# Altium footprint library RESC3216X65L.PCBLIB: 1 footprints
Each footprint in its own frame and in the unit in brackets; x right, y up, seen from the top. Pads: shape width x height; smd on the part's side, far side on the other; paste and mask are expansions set on the pad; w line width, h text height; cw(c..) or ccw(c..) is an arc to the next point about the centre after c.
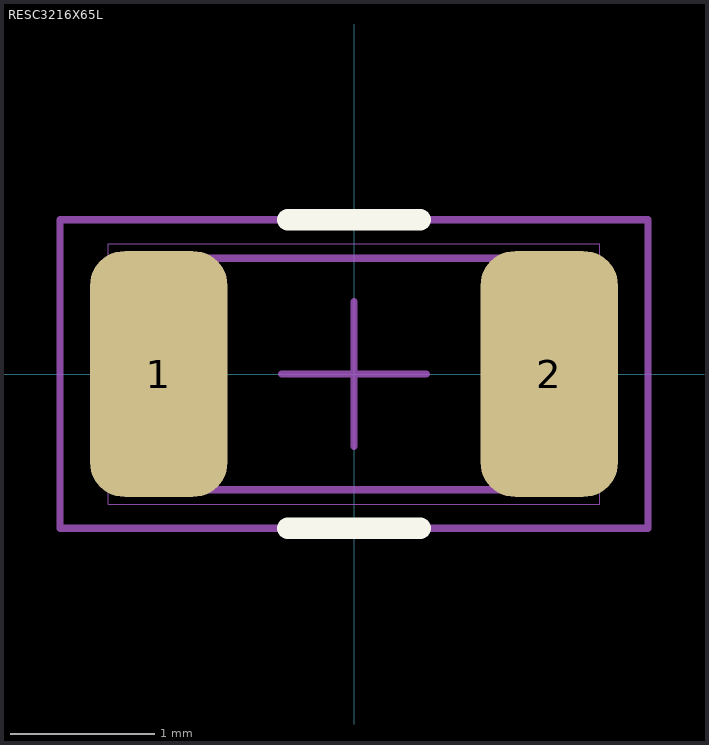
[diagram p0: the footprint, top view; thin cyan lines are the x and y axes]

## RESC3216X65L [mm] "RESISTOR LEAST 1206"
height 0.65
pads (2):
  rrect50% 0.95x1.7 smd paste+0: 1(-1.35,0) 2(1.35,0)
Top Overlay:
  lines w0.15: -0.457,-1.067 0.457,-1.067 ; -0.457,1.067 0.457,1.067
Top Component Outline:
  lines w0.001: -1.7,-0.9 -1.7,0.9 1.7,0.9 1.7,-0.9 -1.7,-0.9
  lines w0.05: -1.6,-0.8 -1.6,0.8 1.6,0.8 1.6,-0.8 -1.6,-0.8
Top Courtyard:
  lines w0.05: -0.5,0 0.5,0 ; 0,-0.5 0,0.5 ; -2.032,-1.067 -2.032,1.067 2.032,1.067 2.032,-1.067 -2.032,-1.067
3D body: height 0.65, standoff 0.05, extent -1.143,-0.9 1.143,0.9
3D body: height 0.65, standoff 0.05, extent -1.7,-0.9 -1.143,0.9
3D body: height 0.65, standoff 0.05, extent 1.143,-0.9 1.7,0.9